# EAGLE library part SAMACSYS_PARTS_MIC2025-2YMM (library ExportCompute Module)
Power Switch ICs - Power Distribution USB High-Side Power Switch Source: Datasheet <http://uk.rs-online.com/web/p/products/1770752>
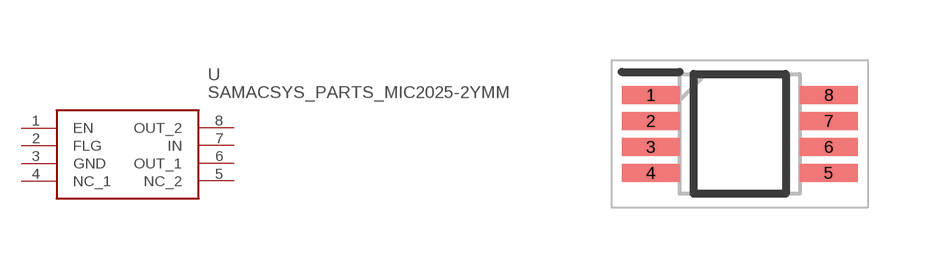
[diagram p18: symbol with the pads of SAMACSYS_PARTS_SOP65P490X110-8N; footprint SAMACSYS_PARTS_SOP65P490X110-8N]

Designator prefix U

## SAMACSYS_PARTS_MIC2025-2YMM (DIGIKEY: MIC2025-2YM-CT-ND; MANUFACTURER: Microchip; MOUSER: 998-MIC2025-2YMM; MPN: MIC2025-2YMM)  [SAMACSYS_PARTS_SOP65P490X110-8N]
1  EN
2  FLG
3  GND
4  NC_1
5  NC_2
6  OUT_1
7  IN
8  OUT_2

## Footprint SAMACSYS_PARTS_SOP65P490X110-8N (pad centres in mm)
EMC2301-1-ACZL-TR-1
smd 1.45 x 0.45: 1 -2.225,0.975; 2 -2.225,0.325; 3 -2.225,-0.325; 4 -2.225,-0.975; 5 2.225,-0.975; 6 2.225,-0.325; 7 2.225,0.325; 8 2.225,0.975